# EAGLE library part SMD-8PIN-50MIL (library alvie)
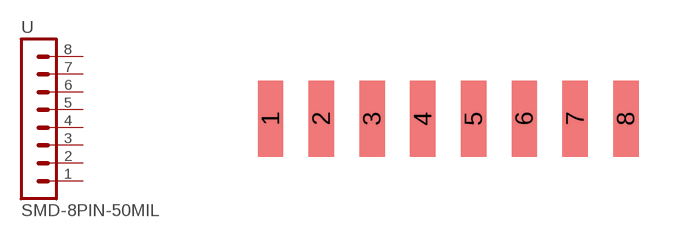
[diagram p39: symbol with the pads of SMD-8PIN-50MIL; footprint SMD-8PIN-50MIL]

Designator prefix -

## SMD-8PIN-50MIL  [SMD-8PIN-50MIL]
1  1  pas
2  2  pas
3  3  pas
4  4  pas
5  5  pas
6  6  pas
7  7  pas
8  8  pas

## Footprint SMD-8PIN-50MIL (pad centres in mm)
smd 0.635 x 1.905: 1 0,0; 2 1.27,0; 3 2.54,0; 4 3.81,0; 5 5.08,0; 6 6.35,0; 7 7.62,0; 8 8.89,0